# EAGLE library part MCP4451-103E_ST (library MCP4451-103E_ST)
MCP4451-103E/ST, Digital Potentiometer 10k 256-Position Linear 2-Channel Serial-SPI 20-Pin TSSOP Source: Datasheet <http://ww1.microchip.com/downloads/en/DeviceDoc/MCP4451.pdf>
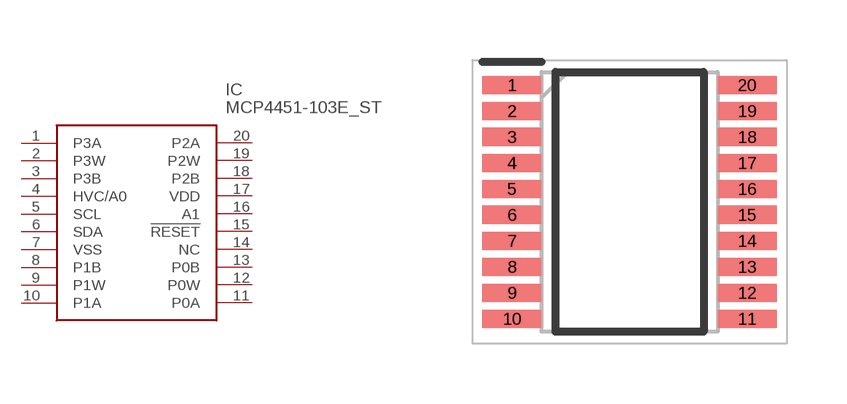
[diagram p0: symbol with the pads of SOP65P640X120-20N; footprint SOP65P640X120-20N]

Designator prefix IC

## MCP4451-103E_ST (Arrow_Part_Number: MCP4451-103E/ST; Arrow_Price-Stock: https://www.arrow.com/en/products/mcp4451-103est/microchip-technology; Description: MCP4451-103E/ST, Digital Potentiometer 10k 256-Position Linear 2-Channel Serial-SPI 20-Pin TSSOP; Height: 1.2mm; Manufacturer_Name: Microchip; Manufacturer_Part_Number: MCP4451-103E/ST; Mouser_Part_Number: 579-MCP4451-103E/ST; Mouser_Price-Stock: https://www.mouser.co.uk/ProductDetail/Microchip-Technology/MCP4451-103E-ST/?qs=opbZS4J%2Fiz2FqmMPXQradQ%3D%3D)  [SOP65P640X120-20N]
1  P3A
2  P3W
3  P3B
4  HVC/A0
5  SCL
6  SDA
7  VSS
8  P1B
9  P1W
10  P1A
11  P0A
12  P0W
13  P0B
14  NC  nc
15  !RESET
16  A1
17  VDD
18  P2B
19  P2W
20  P2A

## Footprint SOP65P640X120-20N (pad centres in mm)
MCP4451-103E/ST
smd 1.475 x 0.45: 1 -2.938,2.925; 2 -2.938,2.275; 3 -2.938,1.625; 4 -2.938,0.975; 5 -2.938,0.325; 6 -2.938,-0.325; 7 -2.938,-0.975; 8 -2.938,-1.625; 9 -2.938,-2.275; 10 -2.938,-2.925; 11 2.938,-2.925; 12 2.938,-2.275; 13 2.938,-1.625; 14 2.938,-0.975; 15 2.938,-0.325; 16 2.938,0.325; 17 2.938,0.975; 18 2.938,1.625; 19 2.938,2.275; 20 2.938,2.925